# EAGLE library part AT86RF230 (library sapphire)
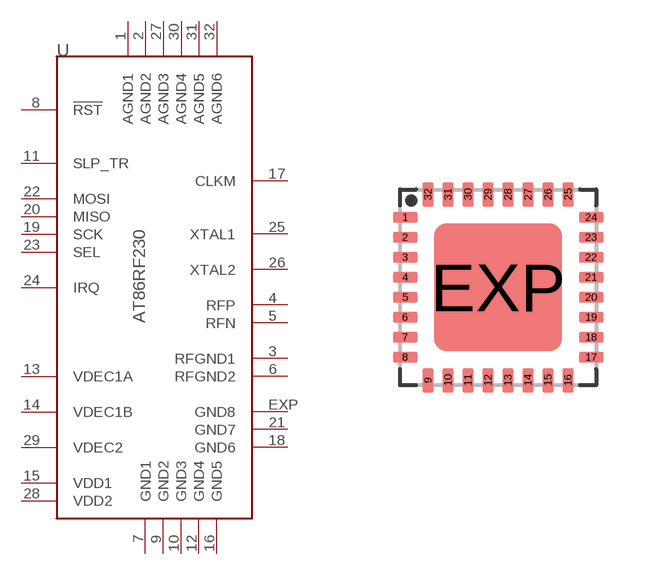
[diagram p2: symbol with the pads of QFN32; footprint QFN32]

Designator prefix -

## AT86RF230  [QFN32]
1  AGND1  pwr
2  AGND2  pwr
3  RFGND1  pwr
4  RFP
5  RFN
6  RFGND2  pwr
7  GND1  pwr
8  !RST
9  GND2  pwr
10  GND3  pwr
11  SLP_TR
12  GND4  pwr
13  VDEC1A
14  VDEC1B
15  VDD1  pwr
16  GND5  pwr
17  CLKM
18  GND6  pwr
19  SCK
20  MISO
21  GND7  pwr
22  MOSI
23  SEL
24  IRQ
25  XTAL1
26  XTAL2
27  AGND3  pwr
28  VDD2  pwr
29  VDEC2
30  AGND4  pwr
31  AGND5  pwr
32  AGND6  pwr
EXP  GND8

## Footprint QFN32 (pad centres in mm)
smd 0.61 x 0.279: 1 -2.325,1.75; 2 -2.325,1.25; 3 -2.325,0.75; 4 -2.325,0.25; 5 -2.325,-0.25; 6 -2.325,-0.75; 7 -2.325,-1.25; 8 -2.325,-1.75; 17 2.325,-1.75; 18 2.325,-1.25; 19 2.325,-0.75; 20 2.325,-0.25; 21 2.325,0.25; 22 2.325,0.75; 23 2.325,1.25; 24 2.325,1.75
smd 0.279 x 0.61: 9 -1.75,-2.325; 10 -1.25,-2.325; 11 -0.75,-2.325; 12 -0.25,-2.325; 13 0.25,-2.325; 14 0.75,-2.325; 15 1.25,-2.325; 16 1.75,-2.325; 25 1.75,2.325; 26 1.25,2.325; 27 0.75,2.325; 28 0.25,2.325; 29 -0.25,2.325; 30 -0.75,2.325; 31 -1.25,2.325; 32 -1.75,2.325
smd 3.2 x 3.2: EXP 0,0